# EAGLE library part TMP006 (library SparkFun-Sensors)
Infrared Temperature Sensor TMP006 3.3v to 5.0v Datasheet <http://cdn.sparkfun.com/datasheets/Sensors/Temp/tmp006.pdf> SparkFun Products SparkFun Infrared Temperature Breakout - TMP006 <https://www.sparkfun.com/products/11859> (SEN-11859)
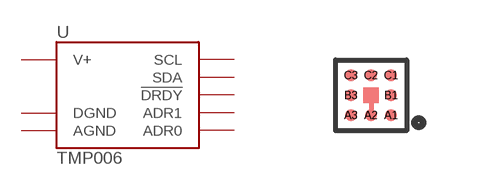
[diagram p46: symbol with the pads of BGA8DS; footprint BGA8DS]

Designator prefix -

## TMP006 (PROD_ID: IC-11632; VALUE: TMP006)  [BGA8DS]
A1  DGND
A2  AGND
A3  V+
B1  ADR1
B3  SCL
C1  ADR0
C2  !DRDY
C3  SDA

## Footprint BGA8DS (pad centres in mm)
smd 0.305 x 0.305: A1 0.5,-0.5; A2 0,-0.5; A3 -0.5,-0.5; B1 0.5,0; B3 -0.5,0; C1 0.5,0.5; C2 0,0.5; C3 -0.5,0.5